# Altium integrated library Ind0603.IntLib: 1 symbol
Pins are listed as number, name and electrical type; pins without a type are passive.

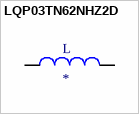
[diagram p0: symbol LQP03TN62NHZ2D]

## LQP03TN62NHZ2D
designator L
Inductor with Inductance: 62nH Tol. +/-3%, Package: 0201 _0603_; MF: Murata; MP: LQP03TN62NHZ2D; Value: *; SnapEDA_Link: https://www.snapeda.com/parts/LQP03TN62NHZ2D/Murata/view-part/4472751/?ref=snap; Price: None; Availability: Unavailable; Package: 0603 Murata
footprint INDC0603X33N
pins: 1, 2